# Altium schematic symbol library SWAA05.Schlib: 1 symbol
Pins are listed as number, name and electrical type; pins without a type are passive.

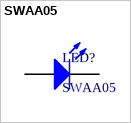
[diagram p0: symbol SWAA05]

## SWAA05
designator LED?
Standard LEDs - SMD White LED Side View
pins: 1 A, 2 K